# EAGLE library part 5555140-6 (library 5555140-6 RJ11)
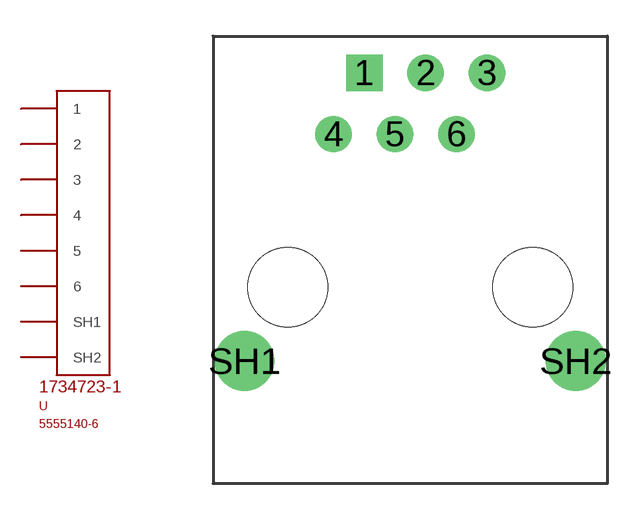
[diagram p0: symbol with the pads of 1734723-1_RJ11; footprint 1734723-1_RJ11]

Designator prefix -

## 5555140-6  [1734723-1_RJ11]
1  1
2  2
3  3
4  4
5  5
6  6
SH1  SH1
SH2  SH2

## Footprint 1734723-1_RJ11 (pad centres in mm)
drill 1 square: 1 -2.54,2.54
drill 1: 2 0,2.54; 3 2.54,2.54; 4 -3.81,0; 5 -1.27,0; 6 1.27,0
drill 1.65: SH1 -7.5,-9.4; SH2 6.22,-9.4
hole 3.3 at -5.72,-6.35
hole 3.3 at 4.44,-6.35